# Altium schematic symbol library Capacitor TH.SchLib: 5 symbols
Pins are listed as number, name and electrical type; pins without a type are passive.

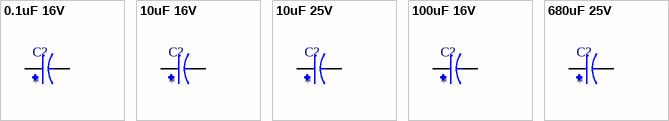
[diagram p0: symbols 0.1uF 16V to 680uF 25V]

## 0.1uF 16V
designator C?
Cap 0.1uF 16VRADIAL TH; MP: EEU-FR1E221B; MF: Panasonic Electronic Components; Package: RADIAL-2 Panasonic; Availability: In Stock; Value: *; SnapEDA_Link: https://www.snapeda.com/parts/EEU-FR1E221B/Panasonic/view-part/?ref=snap; Price: None; Check_prices: https://www.snapeda.com/parts/EEU-FR1E221B/Panasonic/view-part/?ref=eda; Purchase-URL: https://pricing.snapeda.com/search/part/EEU-FR1E221B/?ref=eda
footprint 0.1uF 16V
pins: N, P

## 10uF 16V
designator C?
Cap 10uF 16V RADIAL TH; MP: EEU-FR1E221B; MF: Panasonic Electronic Components; Package: RADIAL-2 Panasonic; Availability: In Stock; Value: *; SnapEDA_Link: https://www.snapeda.com/parts/EEU-FR1E221B/Panasonic/view-part/?ref=snap; Price: None; Check_prices: https://www.snapeda.com/parts/EEU-FR1E221B/Panasonic/view-part/?ref=eda; Purchase-URL: https://pricing.snapeda.com/search/part/EEU-FR1E221B/?ref=eda
footprint 10uF 16V
pins: N, P

## 10uF 25V
designator C?
Cap 10uF 25V RADIAL TH; MP: EEU-FR1E221B; MF: Panasonic Electronic Components; Package: RADIAL-2 Panasonic; Availability: In Stock; Value: *; SnapEDA_Link: https://www.snapeda.com/parts/EEU-FR1E221B/Panasonic/view-part/?ref=snap; Price: None; Check_prices: https://www.snapeda.com/parts/EEU-FR1E221B/Panasonic/view-part/?ref=eda; Purchase-URL: https://pricing.snapeda.com/search/part/EEU-FR1E221B/?ref=eda
footprint 10 uF 25V
pins: N, P

## 100uF 16V
designator C?
CAP ALUM 100uF 16V RADIAL TH; MP: EEU-FR1E221B; MF: Panasonic Electronic Components; Package: RADIAL-2 Panasonic; Availability: In Stock; Value: *; SnapEDA_Link: https://www.snapeda.com/parts/EEU-FR1E221B/Panasonic/view-part/?ref=snap; Price: None; Check_prices: https://www.snapeda.com/parts/EEU-FR1E221B/Panasonic/view-part/?ref=eda; Purchase-URL: https://pricing.snapeda.com/search/part/EEU-FR1E221B/?ref=eda
footprint 100uF  16V
pins: N, P

## 680uF 25V
designator C?
Cap 680uF 25V RADIAL TH; MP: EEU-FR1E221B; MF: Panasonic Electronic Components; Package: RADIAL-2 Panasonic; Availability: In Stock; Value: *; SnapEDA_Link: https://www.snapeda.com/parts/EEU-FR1E221B/Panasonic/view-part/?ref=snap; Price: None; Check_prices: https://www.snapeda.com/parts/EEU-FR1E221B/Panasonic/view-part/?ref=eda; Purchase-URL: https://pricing.snapeda.com/search/part/EEU-FR1E221B/?ref=eda
footprint 680uF 25V
pins: N, P